# Altium footprint library LMK107BJ475MAHT.PcbLib: 3 footprints
Each footprint in its own frame and in the unit in brackets; x right, y up, seen from the top. Pads: shape width x height; smd on the part's side, far side on the other; paste and mask are expansions set on the pad; w line width, h text height; cw(c..) or ccw(c..) is an arc to the next point about the centre after c.
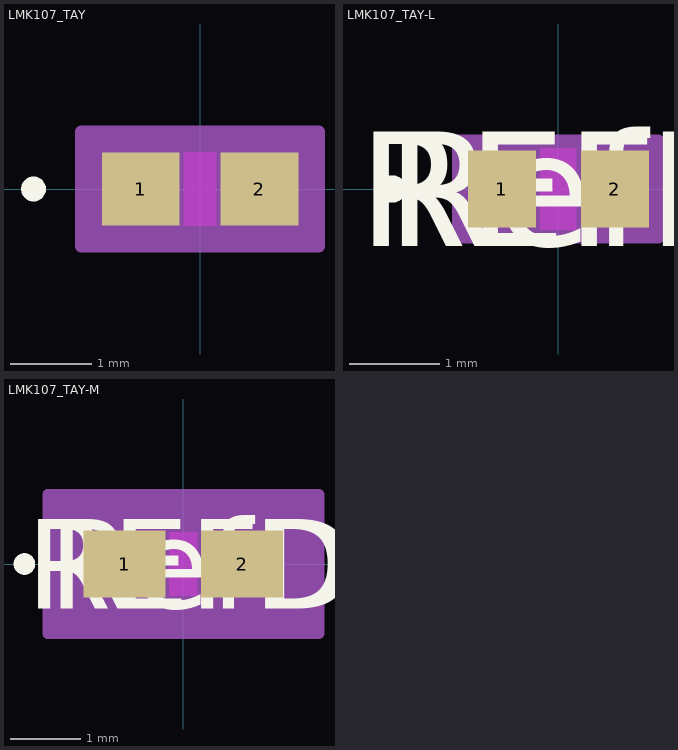
[diagram p0: the footprints below, top view; thin cyan lines are the x and y axes]

## LMK107_TAY [mm]
pads (2):
  rect 0.956x0.9 smd paste+0 mask+0: 1(-0.728,0) 2(0.728,0)
Top Layer keep-out:
  region: -0.199,-0.399 -0.199,0.399 0.199,0.399 0.199,-0.399
Top Overlay:
  circle w0.152: c-2.044,0 r0.076
Keep-Out Layer:
  region: -0.199,-0.45 -0.199,0.45 0.199,0.45 0.199,-0.45
Mechanical 13:
  circle w0: c-0.601,0 r0.076
  lines w0.025: -0.85,-0.45 -0.85,0.45 ; -0.85,-0.45 0.85,-0.45 ; -0.85,-0.45 -0.25,-0.45 -0.25,0.45 -0.85,0.45 ; -0.85,-0.45 -0.85,0.45 ; -0.85,0.45 0.85,0.45 ; 0.85,-0.45 0.85,0.45 ; 0.85,-0.45 0.85,0.45 ; 0.85,-0.45 0.25,-0.45 0.25,0.45 0.85,0.45
Mechanical 15:
  region: 1.46,-0.704 -1.46,-0.704 -1.46,0.704 1.46,0.704
  lines w0.152: -1.46,-0.704 1.46,-0.704 1.46,0.704 -1.46,0.704 -1.46,-0.704
3D body "LMK107_TAY.step": height 0.9, standoff 0, extent -0.85,-0.45 0.85,0.45

## LMK107_TAY-L [mm]
pads (2):
  rect 0.752x0.849 smd paste+0 mask+0: 1(-0.626,0) 2(0.626,0)
Top Layer keep-out:
  region: -0.199,-0.399 -0.199,0.399 0.199,0.399 0.199,-0.399
Top Overlay:
  circle w0.152: c-1.841,0 r0.076
  text "RefDes" at -1.905,-0.635 h1.27
  text "REFDES" at -2.222,-0.635 h1.27
Keep-Out Layer:
  region: -0.199,-0.45 -0.199,0.45 0.199,0.45 0.199,-0.45
Mechanical 13:
  circle w0: c-0.499,0 r0.076
  lines w0.025: -0.85,-0.45 -0.85,0.45 ; -0.85,-0.45 -0.25,-0.45 -0.25,0.45 -0.85,0.45 ; -0.85,-0.45 0.85,-0.45 ; -0.85,-0.45 -0.85,0.45 ; -0.85,0.45 0.85,0.45 ; 0.85,-0.45 0.25,-0.45 0.25,0.45 0.85,0.45 ; 0.85,-0.45 0.85,0.45 ; 0.85,-0.45 0.85,0.45
  text "RefDes2" at -2.222,-0.635 h1.27
Mechanical 15:
  region: 1.104,-0.526 -1.104,-0.526 -1.104,0.526 1.104,0.526
  lines w0.152: -1.104,-0.526 -1.104,0.526 1.104,0.526 1.104,-0.526 -1.104,-0.526
3D body "LMK107_TAY.step": height 0.9, standoff 0, extent -0.85,-0.45 0.85,0.45

## LMK107_TAY-M [mm]
pads (2):
  rect 1.159x0.951 smd paste+0 mask+0: 1(-0.829,0) 2(0.829,0)
Top Layer keep-out:
  region: -0.199,-0.399 -0.199,0.399 0.199,0.399 0.199,-0.399
Top Overlay:
  circle w0.152: c-2.247,0 r0.076
  text "RefDes" at -1.905,-0.635 h1.27
  text "REFDES" at -2.222,-0.635 h1.27
Keep-Out Layer:
  region: -0.199,-0.45 -0.199,0.45 0.199,0.45 0.199,-0.45
Mechanical 13:
  circle w0: c-0.702,0 r0.076
  lines w0.025: -0.85,-0.45 -0.85,0.45 ; -0.85,-0.45 -0.25,-0.45 -0.25,0.45 -0.85,0.45 ; -0.85,-0.45 0.85,-0.45 ; -0.85,-0.45 -0.85,0.45 ; -0.85,0.45 0.85,0.45 ; 0.85,-0.45 0.25,-0.45 0.25,0.45 0.85,0.45 ; 0.85,-0.45 0.85,0.45 ; 0.85,-0.45 0.85,0.45
  text "RefDes2" at -2.222,-0.635 h1.27
Mechanical 15:
  region: 1.917,-0.983 -1.917,-0.983 -1.917,0.983 1.917,0.983
  lines w0.152: -1.917,-0.983 -1.917,0.983 1.917,0.983 1.917,-0.983 -1.917,-0.983
3D body "LMK107_TAY.step": height 0.9, standoff 0, extent -0.85,-0.45 0.85,0.45